# Altium integrated library Linear Technology PMIC-Switching Reg LTC1174-LTC3901.IntLib: 2647 symbols (part 266 of 310)
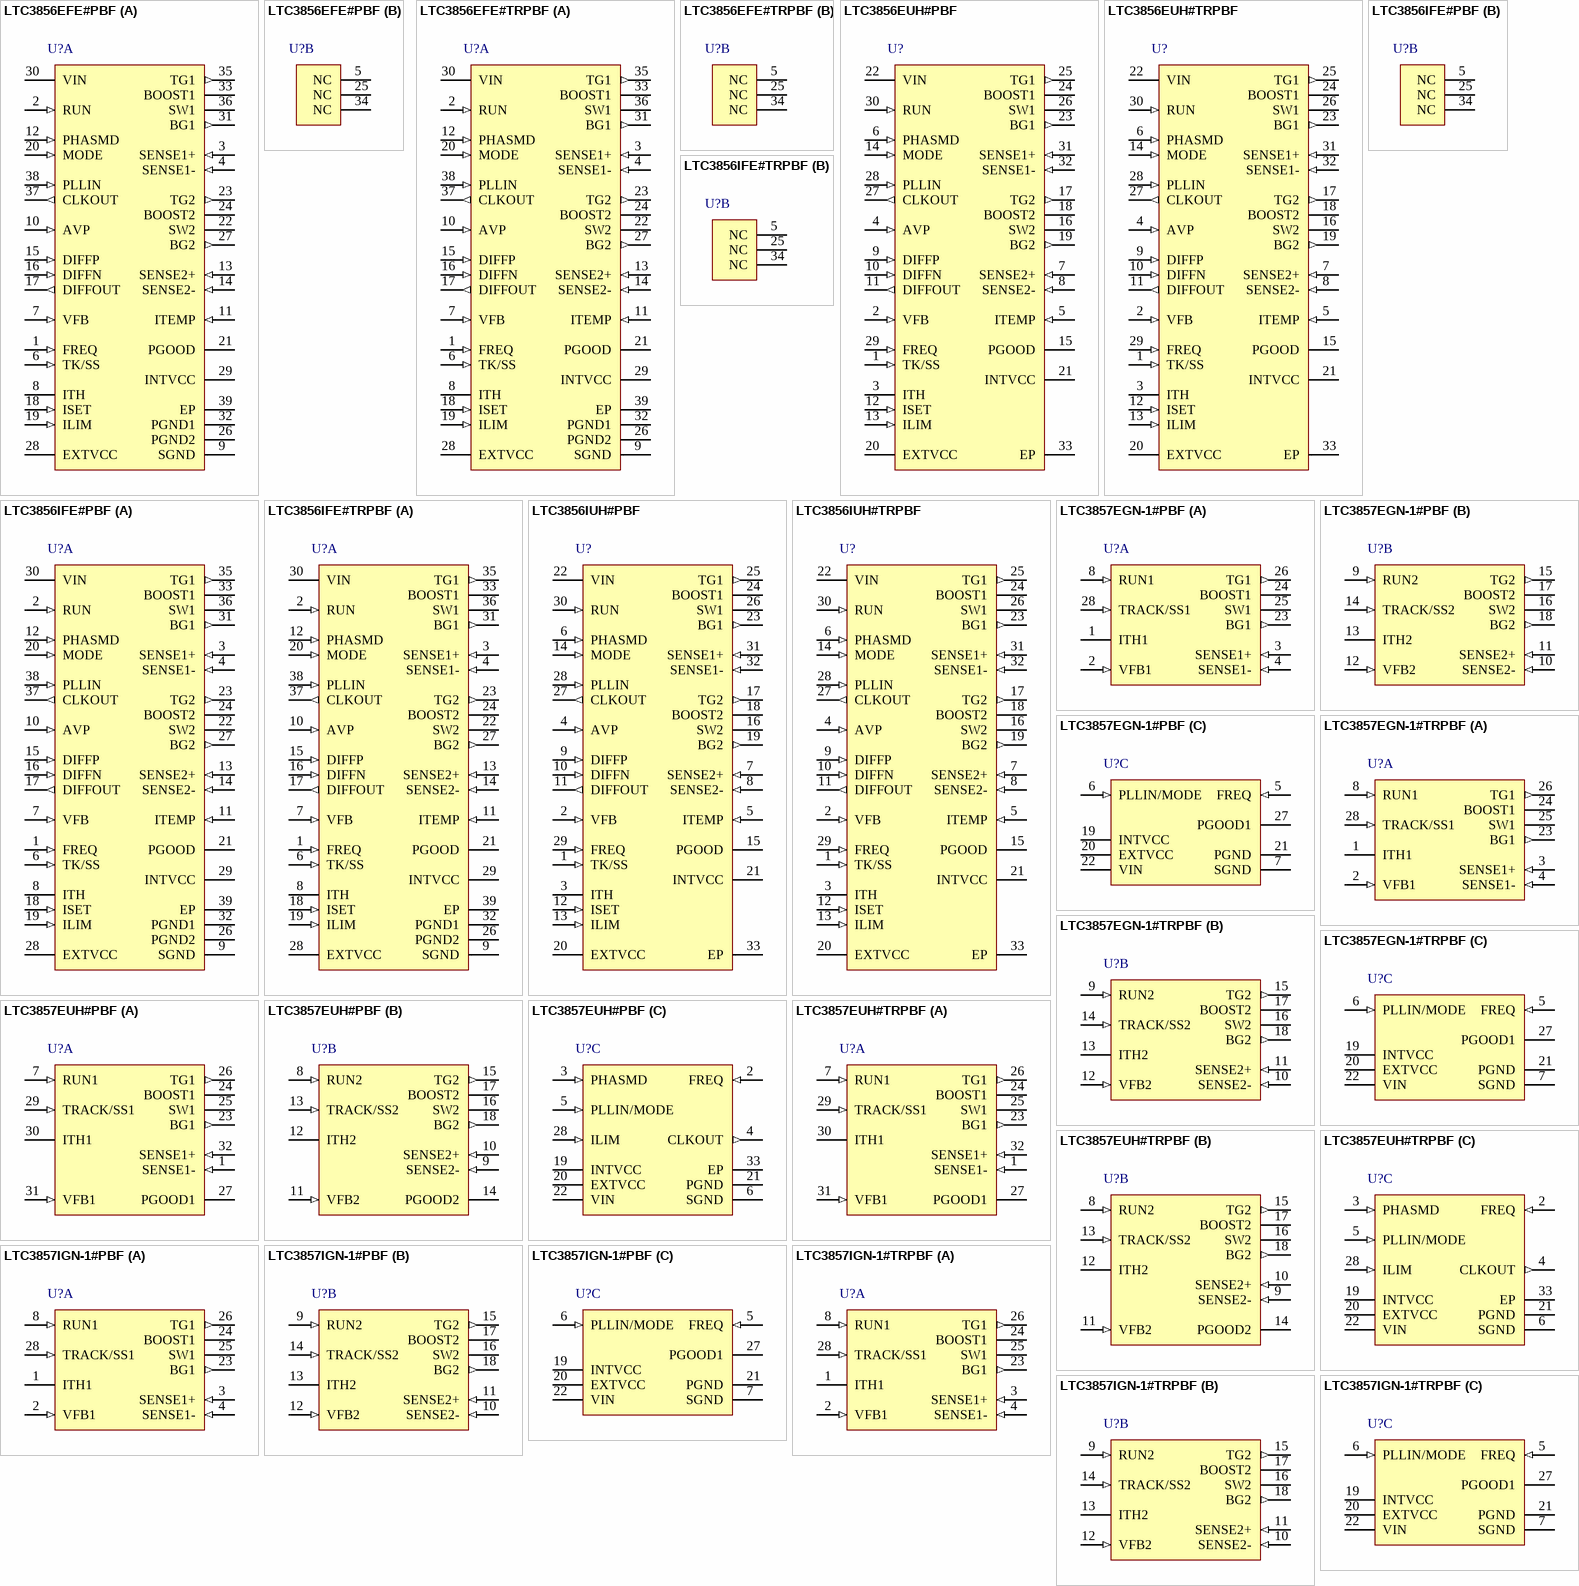
[diagram p275: symbols LTC3856EFE#PBF to LTC3857IGN-1#TRPBF]

## LTC3857EGN-1#TRPBF
designator U?
Low IQ, Dual, 2-Phase Synchronous Step-Down Step-Down Controller, 28-pin SOP (GN-28), -40 to 125 degC, Pb-Free, Tape and Reel; Manufacturer: Linear Technology; PartNumber: LTC3857EGN-1#TRPBF; Number of Outputs: 2; Over Voltage Protection(V): 40; PackageReference: GN-28; PackageDescription: 28-Pin Plastic SSOP, Body 9.9 x 3.9 mm, Pitch 0.635 mm; Supplier 1: Digi-Key; Supplier Part Number 1: LTC3857EGN-1#TRPBF-ND; RoHS: TRUE
footprint LT-GN-28_N (SOP, 28-Leads, Body 9.98x3.98mm, Pitch 0.635mm, IPC Medium Density)
footprint LT-GN-28_L (SOP, 28-Leads, Body 9.98x3.98mm, Pitch 0.635mm, IPC High Density)
footprint LT-GN-28_M (SOP, 28-Leads, Body 9.98x3.98mm, Pitch 0.635mm, IPC Low Density)
part A pins: 1 ITH1 "Error Amplifier Outputs and Switching Regulator Compensation Points. Each associated channel’s current comparator trip point increases with this control voltage.", 2 VFB1 (in) "Receives the remotely sensed feedback voltage for each controller from an external resistive divider across the output.", 3 SENSE1+ (in) "The (+) input to the differential current comparators are normally connected to DCR sensing networks or current sensing resistors. The ITH pin voltage and controlled offsets between the SENSE- and SENSE+ pins in conjunction (See Datasheet)", 4 SENSE1- (in) "The (-) Input to the Differential Current Comparators. When greater than INTVCC -0.5V, the SENSE- pin supplies current to the current comparator.", 8 RUN1 (in), 23 BG1 (out) "High Current Gate Drives for Bottom (Synchronous) N-Channel MOSFETs. Voltage swing at these pins is from ground to INTVCC", 24 BOOST1 "Bootstrapped Supplies to the Topside Floating Drivers. Capacitors are connected between the BOOST and SW pins and Schottky diodes are tied between the BOOST and INTVCC pins. Voltage swing at the BOOST pins is from INTVCC to (See Datasheet)", 25 SW1 "Switch Node Connections to Inductors", 26 TG1 (out) "High Current Gate Drives for Top N-Channel MOSFETs. These are the outputs of floating drivers with a voltage swing equal to INTVCC -0.5V superimposed on the switch node voltage SW.", 28 TRACK/SS1 (in)
part B pins: 9 RUN2 (in), 10 SENSE2- (in) "The (-) Input to the Differential Current Comparators. When greater than INTVCC -0.5V, the SENSE- pin supplies current to the current comparator.", 11 SENSE2+ (in) "The (+) input to the differential current comparators are normally connected to DCR sensing networks or current sensing resistors. The ITH pin voltage and controlled offsets between the SENSE- and SENSE+ pins in conjunction (See Datasheet)", 12 VFB2 (in) "Receives the remotely sensed feedback voltage for each controller from an external resistive divider across the output.", 13 ITH2 "Error Amplifier Outputs and Switching Regulator Compensation Points. Each associated channel’s current comparator trip point increases with this control voltage.", 14 TRACK/SS2 (in), 15 TG2 (out) "High Current Gate Drives for Top N-Channel MOSFETs. These are the outputs of floating drivers with a voltage swing equal to INTVCC -0.5V superimposed on the switch node voltage SW.", 16 SW2 "Switch Node Connections to Inductors", 17 BOOST2 "Bootstrapped Supplies to the Topside Floating Drivers. Capacitors are connected between the BOOST and SW pins and Schottky diodes are tied between the BOOST and INTVCC pins. Voltage swing at the BOOST pins is from INTVCC to (See Datasheet)", 18 BG2 (out) "High Current Gate Drives for Bottom (Synchronous) N-Channel MOSFETs. Voltage swing at these pins is from ground to INTVCC"
part C pins: 5 FREQ (in), 6 PLLIN/MODE (in), 7 SGND (power) "Small-signal ground common to both controllers, must be routed separately from high current grounds to the common (-) terminals of the CIN capacitors.", 19 INTVCC (power) "Output of the Internal Linear Low Dropout Regulator. The driver and control circuits are powered from this voltage source. Must be decoupled to power ground with a minimum of 4.7uF ceramic or other low ESR capacitor. Do not (See Datasheet)", 20 EXTVCC (power), 21 PGND (power) "Driver Power Ground. Connects to the sources of bottom (synchronous) N-channel MOSFETs and the (-) terminal(s) of CIN.", 22 VIN (power) "Main Supply Pin. A bypass capacitor should be tied between this pin and the signal ground pin.", 27 PGOOD1 (oc) "Open-Drain Logic Output. PGOOD1 is pulled to ground when the voltage on the VFB1 pin is not within +/-10% of its set point"

## LTC3857EUH#PBF
designator U?
Low IQ, Dual, 2-Phase Synchronous Step-Down Step-Down Controller, 32-pin QFN (UH-32), -40 to 125 degC, Pb-Free; Manufacturer: Linear Technology; PartNumber: LTC3857EUH#PBF; Number of Outputs: 2; Over Voltage Protection(V): 40; PackageReference: UH-32; PackageDescription: 32-Pin Plastic QFN, Body 5 x 5 mm, Pitch 0.5 mm; Supplier 1: Digi-Key; Supplier Part Number 1: LTC3857EUH#PBF-ND; RoHS: TRUE; Code_JEDEC: MO-220
footprint LT-UH-32_N (QFN, 32-Leads, Body 5.1x5.1mm, Pitch 0.5mm, Thermal Pad 3.45X3.45mm, IPC Medium Density)
footprint LT-UH-32_L (QFN, 32-Leads, Body 5.1x5.1mm, Pitch 0.5mm, Thermal Pad 3.45X3.45mm, IPC High Density)
footprint LT-UH-32_M (QFN, 32-Leads, Body 5.1x5.1mm, Pitch 0.5mm, Thermal Pad 3.45X3.45mm, IPC Low Density)
part A pins: 1 SENSE1- (in) "The (-) Input to the Differential Current Comparators. When greater than INTVCC - 0.5V, the SENSE- pin supplies current to the current comparator.", 7 RUN1 (in) "Digital Run Control Inputs for Each Controller. Forcing either of these pins below 1.26V shuts down that controller. Forcing both of these pins below 0.7V shuts down the entire LTC3857, reducing quiescent current to (See Datasheet)", 23 BG1 (out) "High Current Gate Drives for Bottom (Synchronous) N-Channel MOSFETs. Voltage swing at these pins is from ground to INTVCC.", 24 BOOST1 "Bootstrapped Supplies to the Topside Floating Drivers. Capacitors are connected  between the BOOST and SW pins and Schottky diodes are tied between the BOOST and INTVCC pins. Voltage swing at the BOOST pins is from INTVCC to (See Datasheet)", 25 SW1 "Switch Node Connections to Inductors.", 26 TG1 (out) "High Current Gate Drives for Top N-Channel MOSFETs. These are the outputs of floating drivers with a voltage swing equal to INTVCC - 0.5V superimposed on the switch node voltage SW.", 27 PGOOD1 (oc) "Open-Drain Logic Output. PGOOD1,2 is pulled to ground when the voltage on the VFB1,2 pin is not within +/-10% of its set point.", 29 TRACK/SS1 (in) "External Tracking and Soft-Start Input. The LTC3857 regulates the VFB1,2 voltage to the smaller of 0.8V or the voltage on the TRACK/SS1,2 pin. An internal 1uA pull-up current source is connected to this pin. A capacitor to (See Datasheet)", 30 ITH1 "Error Amplifier Outputs and Switching Regulator Compensation Points. Each associated channel’s current comparator trip point increases with this control voltage.", 31 VFB1 (in) "Receives the remotely sensed feedback voltage for each controller from an external resistive divider across the output.", 32 SENSE1+ (in) "The (+) input to the differential current comparators are normally connected to DCR sensing networks or current sensing resistors. The ITH pin voltage and controlled offsets between the SENSE-  and SENSE+  pins in (See Datasheet)"
part B pins: 8 RUN2 (in) "Digital Run Control Inputs for Each Controller. Forcing either of these pins below 1.26V shuts down that controller. Forcing both of these pins below 0.7V shuts down the entire LTC3857, reducing quiescent current to (See Datasheet)", 9 SENSE2- (in) "The (-) Input to the Differential Current Comparators. When greater than INTVCC - 0.5V, the SENSE- pin supplies current to the current comparator.", 10 SENSE2+ (in) "The (+) input to the differential current comparators are normally connected to DCR sensing networks or current sensing resistors. The ITH pin voltage and controlled offsets between the SENSE-  and SENSE+  pins in (See Datasheet)", 11 VFB2 (in) "Receives the remotely sensed feedback voltage for each controller from an external resistive divider across the output.", 12 ITH2 "Error Amplifier Outputs and Switching Regulator Compensation Points. Each associated channel’s current comparator trip point increases with this control voltage.", 13 TRACK/SS2 (in) "External Tracking and Soft-Start Input. The LTC3857 regulates the VFB1,2 voltage to the smaller of 0.8V or the voltage on the TRACK/SS1,2 pin. An internal 1uA pull-up current source is connected to this pin. A capacitor to (See Datasheet)", 14 PGOOD2 (oc) "Open-Drain Logic Output. PGOOD1,2 is pulled to ground when the voltage on the VFB1,2 pin is not within +/-10% of its set point.", 15 TG2 (out) "High Current Gate Drives for Top N-Channel MOSFETs. These are the outputs of floating drivers with a voltage swing equal to INTVCC - 0.5V superimposed on the switch node voltage SW.", 16 SW2 "Switch Node Connections to Inductors.", 17 BOOST2 "Bootstrapped Supplies to the Topside Floating Drivers. Capacitors are connected  between the BOOST and SW pins and Schottky diodes are tied between the BOOST and INTVCC pins. Voltage swing at the BOOST pins is from INTVCC to (See Datasheet)", 18 BG2 (out) "High Current Gate Drives for Bottom (Synchronous) N-Channel MOSFETs. Voltage swing at these pins is from ground to INTVCC."
part C pins: 2 FREQ (in) "The frequency control pin for the internal VCO. Connecting the pin to GND forces the VCO to a fixed low frequency of 350kHz. Connecting the pin to INTVCC forces the VCO to a fixed high frequency of 535kHz. Other frequencies (See Datasheet)", 3 PHASMD (in) "Control Input to Phase Selector which determines the phase relationships between controller 1, controller 2 and the CLKOUT signal. Pulling this pin to ground forces TG2 and CLKOUT to be out of phase 180degrees and 60degrees (See Datasheet)", 4 CLKOUT (out) "Output clock signal available to daisychain other controller ICs for additional MOSFET driver stages/phases. The output levels swing from INTVCC to  ground.", 5 PLLIN/MODE (in) "External Synchronization Input to Phase Detector and Forced Continuous Mode Input. When an external clock is applied to this pin, the phase-locked  loop will force the rising TG1 signal to be synchronized with the rising (See Datasheet)", 6 SGND (power) "Small-signal ground common to both controllers, must be routed separately from high current grounds to the common (-) terminals of the CIN capacitors. The exposed pad must be soldered to the PCB for rated thermal performance.", 19 INTVCC (power) "Output of the Internal Linear Low Dropout Regulator. The driver and control circuits are powered from this voltage source. Must be decoupled to power ground with a minimum of 4.7uF ceramic or other low ESR capacitor. Do not (See Datasheet)", 20 EXTVCC (power) "External Power Input to an Internal LDO Connected to INTVCC. This LDO supplies INTVCC power, bypassing the internal LDO powered from VIN whenever EXTVCC is higher than 4.7V. See EXTVCC Connection in the Applications (See Datasheet)", 21 PGND (power) "Driver Power Ground. Connects to the sources of bottom (synchronous) N-channel MOSFETs and the (-) terminal(s) of CIN.", 22 VIN (power) "Main Supply Pin. A bypass capacitor should be tied between this pin and the signal ground pin.", 28 ILIM (in) "Current Comparator Sense Voltage Range Inputs. Tying this pin to SGND, FLOAT or INTVCC sets the maximum current sense threshold to one of three different  levels for both comparators.", 33 EP (power) "Small-signal ground common to both controllers, must be routed separately from high current grounds to the common (-) terminals of the CIN capacitors. The exposed pad must be soldered to the PCB for rated thermal performance."

## LTC3857EUH#TRPBF
designator U?
Low IQ, Dual, 2-Phase Synchronous Step-Down Step-Down Controller, 32-pin QFN (UH-32), -40 to 125 degC, Pb-Free, Tape and Reel; Manufacturer: Linear Technology; PartNumber: LTC3857EUH#TRPBF; Number of Outputs: 2; Over Voltage Protection(V): 40; PackageReference: UH-32; PackageDescription: 32-Pin Plastic QFN, Body 5 x 5 mm, Pitch 0.5 mm; Supplier 1: Digi-Key; Supplier Part Number 1: LTC3857EUH#TRPBF-ND; RoHS: TRUE; Code_JEDEC: MO-220
footprint LT-UH-32_N (QFN, 32-Leads, Body 5.1x5.1mm, Pitch 0.5mm, Thermal Pad 3.45X3.45mm, IPC Medium Density)
footprint LT-UH-32_L (QFN, 32-Leads, Body 5.1x5.1mm, Pitch 0.5mm, Thermal Pad 3.45X3.45mm, IPC High Density)
footprint LT-UH-32_M (QFN, 32-Leads, Body 5.1x5.1mm, Pitch 0.5mm, Thermal Pad 3.45X3.45mm, IPC Low Density)
part A pins: 1 SENSE1- (in) "The (-) Input to the Differential Current Comparators. When greater than INTVCC - 0.5V, the SENSE- pin supplies current to the current comparator.", 7 RUN1 (in) "Digital Run Control Inputs for Each Controller. Forcing either of these pins below 1.26V shuts down that controller. Forcing both of these pins below 0.7V shuts down the entire LTC3857, reducing quiescent current to (See Datasheet)", 23 BG1 (out) "High Current Gate Drives for Bottom (Synchronous) N-Channel MOSFETs. Voltage swing at these pins is from ground to INTVCC.", 24 BOOST1 "Bootstrapped Supplies to the Topside Floating Drivers. Capacitors are connected  between the BOOST and SW pins and Schottky diodes are tied between the BOOST and INTVCC pins. Voltage swing at the BOOST pins is from INTVCC to (See Datasheet)", 25 SW1 "Switch Node Connections to Inductors.", 26 TG1 (out) "High Current Gate Drives for Top N-Channel MOSFETs. These are the outputs of floating drivers with a voltage swing equal to INTVCC - 0.5V superimposed on the switch node voltage SW.", 27 PGOOD1 (oc) "Open-Drain Logic Output. PGOOD1,2 is pulled to ground when the voltage on the VFB1,2 pin is not within +/-10% of its set point.", 29 TRACK/SS1 (in) "External Tracking and Soft-Start Input. The LTC3857 regulates the VFB1,2 voltage to the smaller of 0.8V or the voltage on the TRACK/SS1,2 pin. An internal 1uA pull-up current source is connected to this pin. A capacitor to (See Datasheet)", 30 ITH1 "Error Amplifier Outputs and Switching Regulator Compensation Points. Each associated channel’s current comparator trip point increases with this control voltage.", 31 VFB1 (in) "Receives the remotely sensed feedback voltage for each controller from an external resistive divider across the output.", 32 SENSE1+ (in) "The (+) input to the differential current comparators are normally connected to DCR sensing networks or current sensing resistors. The ITH pin voltage and controlled offsets between the SENSE-  and SENSE+  pins in (See Datasheet)"
part B pins: 8 RUN2 (in) "Digital Run Control Inputs for Each Controller. Forcing either of these pins below 1.26V shuts down that controller. Forcing both of these pins below 0.7V shuts down the entire LTC3857, reducing quiescent current to (See Datasheet)", 9 SENSE2- (in) "The (-) Input to the Differential Current Comparators. When greater than INTVCC - 0.5V, the SENSE- pin supplies current to the current comparator.", 10 SENSE2+ (in) "The (+) input to the differential current comparators are normally connected to DCR sensing networks or current sensing resistors. The ITH pin voltage and controlled offsets between the SENSE-  and SENSE+  pins in (See Datasheet)", 11 VFB2 (in) "Receives the remotely sensed feedback voltage for each controller from an external resistive divider across the output.", 12 ITH2 "Error Amplifier Outputs and Switching Regulator Compensation Points. Each associated channel’s current comparator trip point increases with this control voltage.", 13 TRACK/SS2 (in) "External Tracking and Soft-Start Input. The LTC3857 regulates the VFB1,2 voltage to the smaller of 0.8V or the voltage on the TRACK/SS1,2 pin. An internal 1uA pull-up current source is connected to this pin. A capacitor to (See Datasheet)", 14 PGOOD2 (oc) "Open-Drain Logic Output. PGOOD1,2 is pulled to ground when the voltage on the VFB1,2 pin is not within +/-10% of its set point.", 15 TG2 (out) "High Current Gate Drives for Top N-Channel MOSFETs. These are the outputs of floating drivers with a voltage swing equal to INTVCC - 0.5V superimposed on the switch node voltage SW.", 16 SW2 "Switch Node Connections to Inductors.", 17 BOOST2 "Bootstrapped Supplies to the Topside Floating Drivers. Capacitors are connected  between the BOOST and SW pins and Schottky diodes are tied between the BOOST and INTVCC pins. Voltage swing at the BOOST pins is from INTVCC to (See Datasheet)", 18 BG2 (out) "High Current Gate Drives for Bottom (Synchronous) N-Channel MOSFETs. Voltage swing at these pins is from ground to INTVCC."
part C pins: 2 FREQ (in) "The frequency control pin for the internal VCO. Connecting the pin to GND forces the VCO to a fixed low frequency of 350kHz. Connecting the pin to INTVCC forces the VCO to a fixed high frequency of 535kHz. Other frequencies (See Datasheet)", 3 PHASMD (in) "Control Input to Phase Selector which determines the phase relationships between controller 1, controller 2 and the CLKOUT signal. Pulling this pin to ground forces TG2 and CLKOUT to be out of phase 180degrees and 60degrees (See Datasheet)", 4 CLKOUT (out) "Output clock signal available to daisychain other controller ICs for additional MOSFET driver stages/phases. The output levels swing from INTVCC to  ground.", 5 PLLIN/MODE (in) "External Synchronization Input to Phase Detector and Forced Continuous Mode Input. When an external clock is applied to this pin, the phase-locked  loop will force the rising TG1 signal to be synchronized with the rising (See Datasheet)", 6 SGND (power) "Small-signal ground common to both controllers, must be routed separately from high current grounds to the common (-) terminals of the CIN capacitors. The exposed pad must be soldered to the PCB for rated thermal performance.", 19 INTVCC (power) "Output of the Internal Linear Low Dropout Regulator. The driver and control circuits are powered from this voltage source. Must be decoupled to power ground with a minimum of 4.7uF ceramic or other low ESR capacitor. Do not (See Datasheet)", 20 EXTVCC (power) "External Power Input to an Internal LDO Connected to INTVCC. This LDO supplies INTVCC power, bypassing the internal LDO powered from VIN whenever EXTVCC is higher than 4.7V. See EXTVCC Connection in the Applications (See Datasheet)", 21 PGND (power) "Driver Power Ground. Connects to the sources of bottom (synchronous) N-channel MOSFETs and the (-) terminal(s) of CIN.", 22 VIN (power) "Main Supply Pin. A bypass capacitor should be tied between this pin and the signal ground pin.", 28 ILIM (in) "Current Comparator Sense Voltage Range Inputs. Tying this pin to SGND, FLOAT or INTVCC sets the maximum current sense threshold to one of three different  levels for both comparators.", 33 EP (power) "Small-signal ground common to both controllers, must be routed separately from high current grounds to the common (-) terminals of the CIN capacitors. The exposed pad must be soldered to the PCB for rated thermal performance."

## LTC3857IGN-1#PBF
designator U?
Low IQ, Dual, 2-Phase Synchronous Step-Down Step-Down Controller, 28-pin SOP (GN-28), -40 to 125 degC, Pb-Free; Manufacturer: Linear Technology; PartNumber: LTC3857IGN-1#PBF; Number of Outputs: 2; Over Voltage Protection(V): 40; PackageReference: GN-28; PackageDescription: 28-Pin Plastic SSOP, Body 9.9 x 3.9 mm, Pitch 0.635 mm; Supplier 1: Digi-Key; Supplier Part Number 1: LTC3857IGN-1#PBF-ND; RoHS: TRUE
footprint LT-GN-28_N (SOP, 28-Leads, Body 9.98x3.98mm, Pitch 0.635mm, IPC Medium Density)
footprint LT-GN-28_L (SOP, 28-Leads, Body 9.98x3.98mm, Pitch 0.635mm, IPC High Density)
footprint LT-GN-28_M (SOP, 28-Leads, Body 9.98x3.98mm, Pitch 0.635mm, IPC Low Density)
part A pins: 1 ITH1 "Error Amplifier Outputs and Switching Regulator Compensation Points. Each associated channel’s current comparator trip point increases with this control voltage.", 2 VFB1 (in) "Receives the remotely sensed feedback voltage for each controller from an external resistive divider across the output.", 3 SENSE1+ (in) "The (+) input to the differential current comparators are normally connected to DCR sensing networks or current sensing resistors. The ITH pin voltage and controlled offsets between the SENSE- and SENSE+ pins in conjunction (See Datasheet)", 4 SENSE1- (in) "The (-) Input to the Differential Current Comparators. When greater than INTVCC -0.5V, the SENSE- pin supplies current to the current comparator.", 8 RUN1 (in), 23 BG1 (out) "High Current Gate Drives for Bottom (Synchronous) N-Channel MOSFETs. Voltage swing at these pins is from ground to INTVCC", 24 BOOST1 "Bootstrapped Supplies to the Topside Floating Drivers. Capacitors are connected between the BOOST and SW pins and Schottky diodes are tied between the BOOST and INTVCC pins. Voltage swing at the BOOST pins is from INTVCC to (See Datasheet)", 25 SW1 "Switch Node Connections to Inductors", 26 TG1 (out) "High Current Gate Drives for Top N-Channel MOSFETs. These are the outputs of floating drivers with a voltage swing equal to INTVCC -0.5V superimposed on the switch node voltage SW.", 28 TRACK/SS1 (in)
part B pins: 9 RUN2 (in), 10 SENSE2- (in) "The (-) Input to the Differential Current Comparators. When greater than INTVCC -0.5V, the SENSE- pin supplies current to the current comparator.", 11 SENSE2+ (in) "The (+) input to the differential current comparators are normally connected to DCR sensing networks or current sensing resistors. The ITH pin voltage and controlled offsets between the SENSE- and SENSE+ pins in conjunction (See Datasheet)", 12 VFB2 (in) "Receives the remotely sensed feedback voltage for each controller from an external resistive divider across the output.", 13 ITH2 "Error Amplifier Outputs and Switching Regulator Compensation Points. Each associated channel’s current comparator trip point increases with this control voltage.", 14 TRACK/SS2 (in), 15 TG2 (out) "High Current Gate Drives for Top N-Channel MOSFETs. These are the outputs of floating drivers with a voltage swing equal to INTVCC -0.5V superimposed on the switch node voltage SW.", 16 SW2 "Switch Node Connections to Inductors", 17 BOOST2 "Bootstrapped Supplies to the Topside Floating Drivers. Capacitors are connected between the BOOST and SW pins and Schottky diodes are tied between the BOOST and INTVCC pins. Voltage swing at the BOOST pins is from INTVCC to (See Datasheet)", 18 BG2 (out) "High Current Gate Drives for Bottom (Synchronous) N-Channel MOSFETs. Voltage swing at these pins is from ground to INTVCC"
part C pins: 5 FREQ (in), 6 PLLIN/MODE (in), 7 SGND (power) "Small-signal ground common to both controllers, must be routed separately from high current grounds to the common (-) terminals of the CIN capacitors.", 19 INTVCC (power) "Output of the Internal Linear Low Dropout Regulator. The driver and control circuits are powered from this voltage source. Must be decoupled to power ground with a minimum of 4.7uF ceramic or other low ESR capacitor. Do not (See Datasheet)", 20 EXTVCC (power), 21 PGND (power) "Driver Power Ground. Connects to the sources of bottom (synchronous) N-channel MOSFETs and the (-) terminal(s) of CIN.", 22 VIN (power) "Main Supply Pin. A bypass capacitor should be tied between this pin and the signal ground pin.", 27 PGOOD1 (oc) "Open-Drain Logic Output. PGOOD1 is pulled to ground when the voltage on the VFB1 pin is not within +/-10% of its set point"

## LTC3857IGN-1#TRPBF
designator U?
Low IQ, Dual, 2-Phase Synchronous Step-Down Step-Down Controller, 28-pin SOP (GN-28), -40 to 125 degC, Pb-Free, Tape and Reel; Manufacturer: Linear Technology; PartNumber: LTC3857IGN-1#TRPBF; Number of Outputs: 2; Over Voltage Protection(V): 40; PackageReference: GN-28; PackageDescription: 28-Pin Plastic SSOP, Body 9.9 x 3.9 mm, Pitch 0.635 mm; Supplier 1: Digi-Key; Supplier Part Number 1: LTC3857IGN-1#TRPBF-ND; RoHS: TRUE
footprint LT-GN-28_N (SOP, 28-Leads, Body 9.98x3.98mm, Pitch 0.635mm, IPC Medium Density)
footprint LT-GN-28_L (SOP, 28-Leads, Body 9.98x3.98mm, Pitch 0.635mm, IPC High Density)
footprint LT-GN-28_M (SOP, 28-Leads, Body 9.98x3.98mm, Pitch 0.635mm, IPC Low Density)
part A pins: 1 ITH1 "Error Amplifier Outputs and Switching Regulator Compensation Points. Each associated channel’s current comparator trip point increases with this control voltage.", 2 VFB1 (in) "Receives the remotely sensed feedback voltage for each controller from an external resistive divider across the output.", 3 SENSE1+ (in) "The (+) input to the differential current comparators are normally connected to DCR sensing networks or current sensing resistors. The ITH pin voltage and controlled offsets between the SENSE- and SENSE+ pins in conjunction (See Datasheet)", 4 SENSE1- (in) "The (-) Input to the Differential Current Comparators. When greater than INTVCC -0.5V, the SENSE- pin supplies current to the current comparator.", 8 RUN1 (in), 23 BG1 (out) "High Current Gate Drives for Bottom (Synchronous) N-Channel MOSFETs. Voltage swing at these pins is from ground to INTVCC", 24 BOOST1 "Bootstrapped Supplies to the Topside Floating Drivers. Capacitors are connected between the BOOST and SW pins and Schottky diodes are tied between the BOOST and INTVCC pins. Voltage swing at the BOOST pins is from INTVCC to (See Datasheet)", 25 SW1 "Switch Node Connections to Inductors", 26 TG1 (out) "High Current Gate Drives for Top N-Channel MOSFETs. These are the outputs of floating drivers with a voltage swing equal to INTVCC -0.5V superimposed on the switch node voltage SW.", 28 TRACK/SS1 (in)
part B pins: 9 RUN2 (in), 10 SENSE2- (in) "The (-) Input to the Differential Current Comparators. When greater than INTVCC -0.5V, the SENSE- pin supplies current to the current comparator.", 11 SENSE2+ (in) "The (+) input to the differential current comparators are normally connected to DCR sensing networks or current sensing resistors. The ITH pin voltage and controlled offsets between the SENSE- and SENSE+ pins in conjunction (See Datasheet)", 12 VFB2 (in) "Receives the remotely sensed feedback voltage for each controller from an external resistive divider across the output.", 13 ITH2 "Error Amplifier Outputs and Switching Regulator Compensation Points. Each associated channel’s current comparator trip point increases with this control voltage.", 14 TRACK/SS2 (in), 15 TG2 (out) "High Current Gate Drives for Top N-Channel MOSFETs. These are the outputs of floating drivers with a voltage swing equal to INTVCC -0.5V superimposed on the switch node voltage SW.", 16 SW2 "Switch Node Connections to Inductors", 17 BOOST2 "Bootstrapped Supplies to the Topside Floating Drivers. Capacitors are connected between the BOOST and SW pins and Schottky diodes are tied between the BOOST and INTVCC pins. Voltage swing at the BOOST pins is from INTVCC to (See Datasheet)", 18 BG2 (out) "High Current Gate Drives for Bottom (Synchronous) N-Channel MOSFETs. Voltage swing at these pins is from ground to INTVCC"
part C pins: 5 FREQ (in), 6 PLLIN/MODE (in), 7 SGND (power) "Small-signal ground common to both controllers, must be routed separately from high current grounds to the common (-) terminals of the CIN capacitors.", 19 INTVCC (power) "Output of the Internal Linear Low Dropout Regulator. The driver and control circuits are powered from this voltage source. Must be decoupled to power ground with a minimum of 4.7uF ceramic or other low ESR capacitor. Do not (See Datasheet)", 20 EXTVCC (power), 21 PGND (power) "Driver Power Ground. Connects to the sources of bottom (synchronous) N-channel MOSFETs and the (-) terminal(s) of CIN.", 22 VIN (power) "Main Supply Pin. A bypass capacitor should be tied between this pin and the signal ground pin.", 27 PGOOD1 (oc) "Open-Drain Logic Output. PGOOD1 is pulled to ground when the voltage on the VFB1 pin is not within +/-10% of its set point"

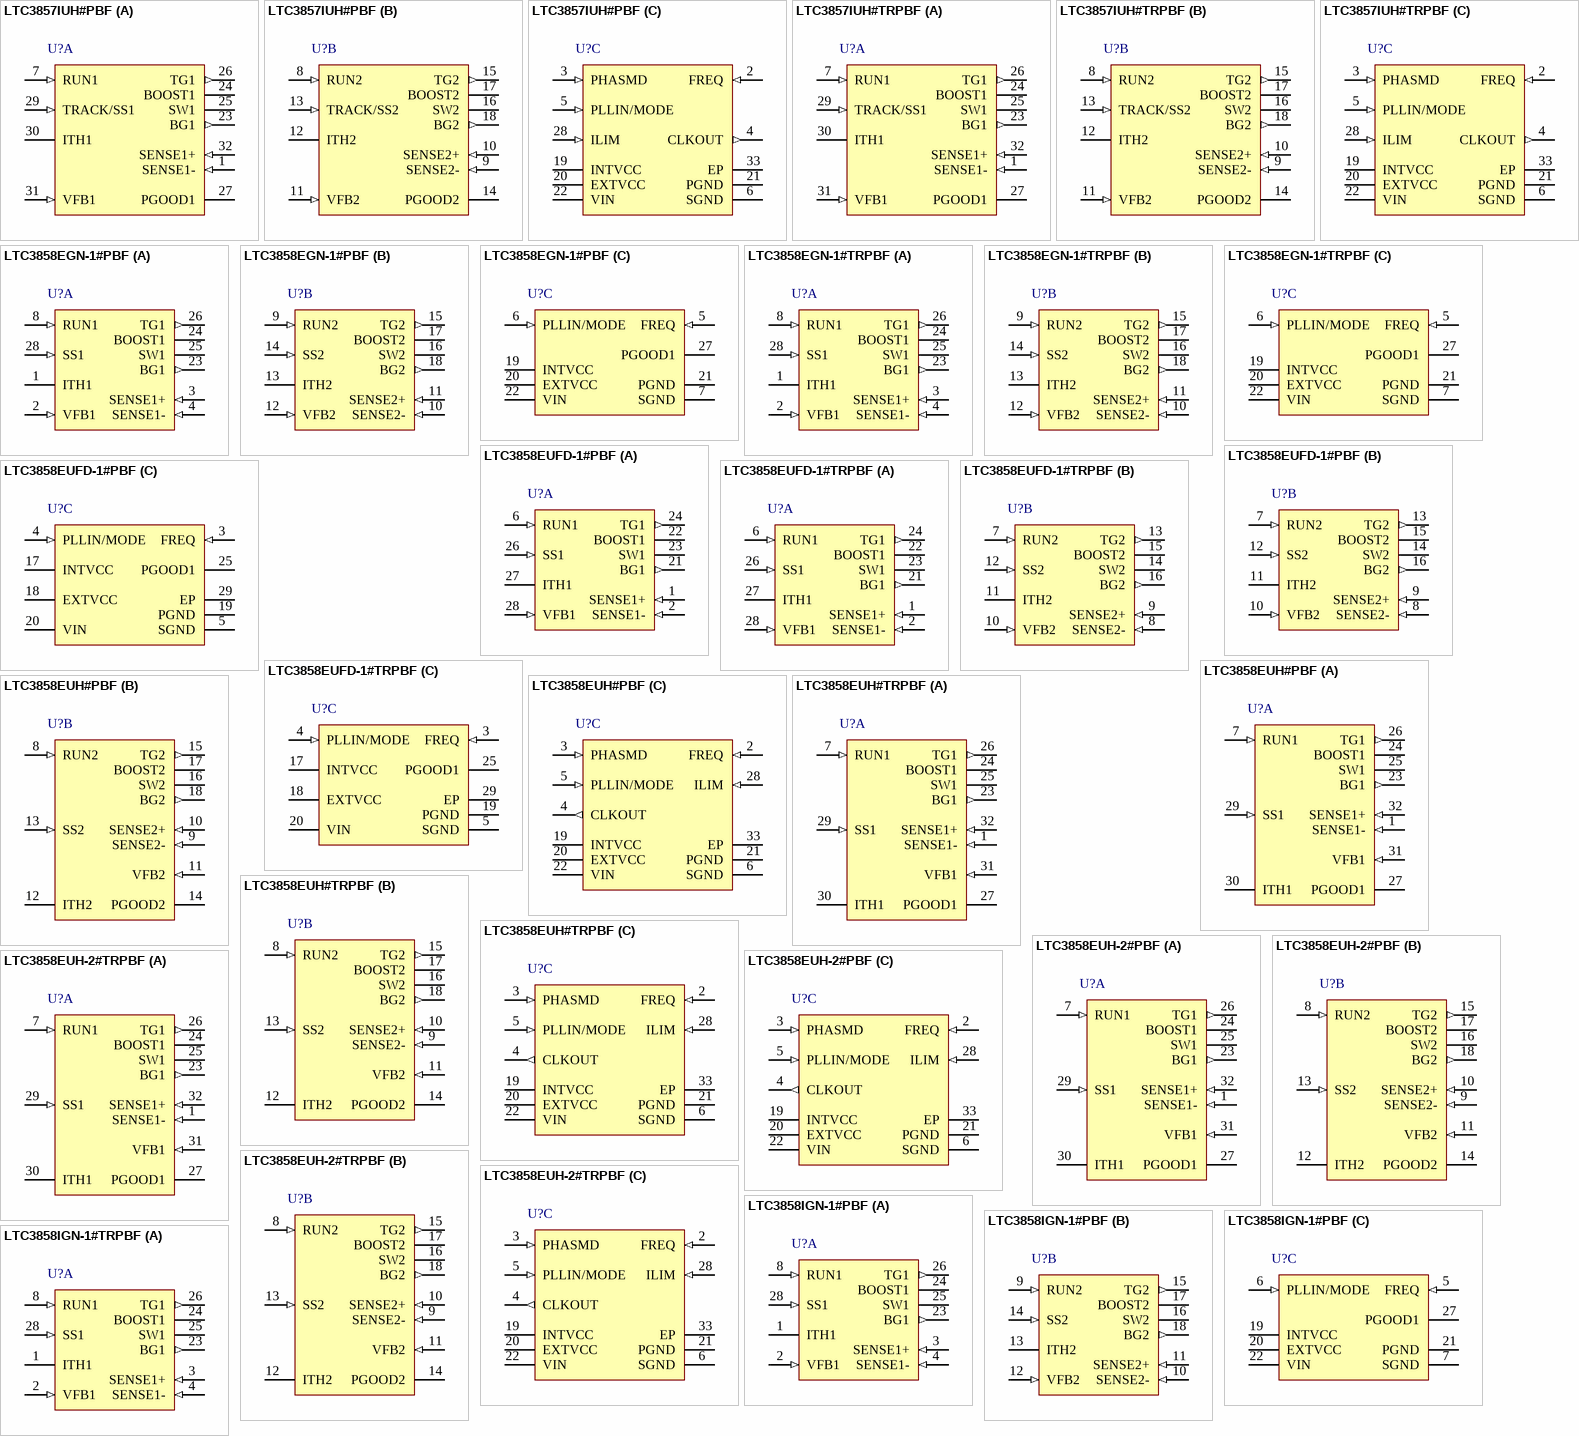
[diagram p96: symbols LTC3857IUH#PBF to LTC3858IGN-1#TRPBF]

## LTC3857IUH#PBF
designator U?
Low IQ, Dual, 2-Phase Synchronous Step-Down Step-Down Controller, 32-pin QFN (UH-32), -40 to 125 degC, Pb-Free; Manufacturer: Linear Technology; PartNumber: LTC3857IUH#PBF; Number of Outputs: 2; Over Voltage Protection(V): 40; PackageReference: UH-32; PackageDescription: 32-Pin Plastic QFN, Body 5 x 5 mm, Pitch 0.5 mm; Supplier 1: Digi-Key; Supplier Part Number 1: LTC3857IUH#PBF-ND; RoHS: TRUE; Code_JEDEC: MO-220
footprint LT-UH-32_N (QFN, 32-Leads, Body 5.1x5.1mm, Pitch 0.5mm, Thermal Pad 3.45X3.45mm, IPC Medium Density)
footprint LT-UH-32_L (QFN, 32-Leads, Body 5.1x5.1mm, Pitch 0.5mm, Thermal Pad 3.45X3.45mm, IPC High Density)
footprint LT-UH-32_M (QFN, 32-Leads, Body 5.1x5.1mm, Pitch 0.5mm, Thermal Pad 3.45X3.45mm, IPC Low Density)
part A pins: 1 SENSE1- (in) "The (-) Input to the Differential Current Comparators. When greater than INTVCC - 0.5V, the SENSE- pin supplies current to the current comparator.", 7 RUN1 (in) "Digital Run Control Inputs for Each Controller. Forcing either of these pins below 1.26V shuts down that controller. Forcing both of these pins below 0.7V shuts down the entire LTC3857, reducing quiescent current to (See Datasheet)", 23 BG1 (out) "High Current Gate Drives for Bottom (Synchronous) N-Channel MOSFETs. Voltage swing at these pins is from ground to INTVCC.", 24 BOOST1 "Bootstrapped Supplies to the Topside Floating Drivers. Capacitors are connected  between the BOOST and SW pins and Schottky diodes are tied between the BOOST and INTVCC pins. Voltage swing at the BOOST pins is from INTVCC to (See Datasheet)", 25 SW1 "Switch Node Connections to Inductors.", 26 TG1 (out) "High Current Gate Drives for Top N-Channel MOSFETs. These are the outputs of floating drivers with a voltage swing equal to INTVCC - 0.5V superimposed on the switch node voltage SW.", 27 PGOOD1 (oc) "Open-Drain Logic Output. PGOOD1,2 is pulled to ground when the voltage on the VFB1,2 pin is not within +/-10% of its set point.", 29 TRACK/SS1 (in) "External Tracking and Soft-Start Input. The LTC3857 regulates the VFB1,2 voltage to the smaller of 0.8V or the voltage on the TRACK/SS1,2 pin. An internal 1uA pull-up current source is connected to this pin. A capacitor to (See Datasheet)", 30 ITH1 "Error Amplifier Outputs and Switching Regulator Compensation Points. Each associated channel’s current comparator trip point increases with this control voltage.", 31 VFB1 (in) "Receives the remotely sensed feedback voltage for each controller from an external resistive divider across the output.", 32 SENSE1+ (in) "The (+) input to the differential current comparators are normally connected to DCR sensing networks or current sensing resistors. The ITH pin voltage and controlled offsets between the SENSE-  and SENSE+  pins in (See Datasheet)"
part B pins: 8 RUN2 (in) "Digital Run Control Inputs for Each Controller. Forcing either of these pins below 1.26V shuts down that controller. Forcing both of these pins below 0.7V shuts down the entire LTC3857, reducing quiescent current to (See Datasheet)", 9 SENSE2- (in) "The (-) Input to the Differential Current Comparators. When greater than INTVCC - 0.5V, the SENSE- pin supplies current to the current comparator.", 10 SENSE2+ (in) "The (+) input to the differential current comparators are normally connected to DCR sensing networks or current sensing resistors. The ITH pin voltage and controlled offsets between the SENSE-  and SENSE+  pins in (See Datasheet)", 11 VFB2 (in) "Receives the remotely sensed feedback voltage for each controller from an external resistive divider across the output.", 12 ITH2 "Error Amplifier Outputs and Switching Regulator Compensation Points. Each associated channel’s current comparator trip point increases with this control voltage.", 13 TRACK/SS2 (in) "External Tracking and Soft-Start Input. The LTC3857 regulates the VFB1,2 voltage to the smaller of 0.8V or the voltage on the TRACK/SS1,2 pin. An internal 1uA pull-up current source is connected to this pin. A capacitor to (See Datasheet)", 14 PGOOD2 (oc) "Open-Drain Logic Output. PGOOD1,2 is pulled to ground when the voltage on the VFB1,2 pin is not within +/-10% of its set point.", 15 TG2 (out) "High Current Gate Drives for Top N-Channel MOSFETs. These are the outputs of floating drivers with a voltage swing equal to INTVCC - 0.5V superimposed on the switch node voltage SW.", 16 SW2 "Switch Node Connections to Inductors.", 17 BOOST2 "Bootstrapped Supplies to the Topside Floating Drivers. Capacitors are connected  between the BOOST and SW pins and Schottky diodes are tied between the BOOST and INTVCC pins. Voltage swing at the BOOST pins is from INTVCC to (See Datasheet)", 18 BG2 (out) "High Current Gate Drives for Bottom (Synchronous) N-Channel MOSFETs. Voltage swing at these pins is from ground to INTVCC."
part C pins: 2 FREQ (in) "The frequency control pin for the internal VCO. Connecting the pin to GND forces the VCO to a fixed low frequency of 350kHz. Connecting the pin to INTVCC forces the VCO to a fixed high frequency of 535kHz. Other frequencies (See Datasheet)", 3 PHASMD (in) "Control Input to Phase Selector which determines the phase relationships between controller 1, controller 2 and the CLKOUT signal. Pulling this pin to ground forces TG2 and CLKOUT to be out of phase 180degrees and 60degrees (See Datasheet)", 4 CLKOUT (out) "Output clock signal available to daisychain other controller ICs for additional MOSFET driver stages/phases. The output levels swing from INTVCC to  ground.", 5 PLLIN/MODE (in) "External Synchronization Input to Phase Detector and Forced Continuous Mode Input. When an external clock is applied to this pin, the phase-locked  loop will force the rising TG1 signal to be synchronized with the rising (See Datasheet)", 6 SGND (power) "Small-signal ground common to both controllers, must be routed separately from high current grounds to the common (-) terminals of the CIN capacitors. The exposed pad must be soldered to the PCB for rated thermal performance.", 19 INTVCC (power) "Output of the Internal Linear Low Dropout Regulator. The driver and control circuits are powered from this voltage source. Must be decoupled to power ground with a minimum of 4.7uF ceramic or other low ESR capacitor. Do not (See Datasheet)", 20 EXTVCC (power) "External Power Input to an Internal LDO Connected to INTVCC. This LDO supplies INTVCC power, bypassing the internal LDO powered from VIN whenever EXTVCC is higher than 4.7V. See EXTVCC Connection in the Applications (See Datasheet)", 21 PGND (power) "Driver Power Ground. Connects to the sources of bottom (synchronous) N-channel MOSFETs and the (-) terminal(s) of CIN.", 22 VIN (power) "Main Supply Pin. A bypass capacitor should be tied between this pin and the signal ground pin.", 28 ILIM (in) "Current Comparator Sense Voltage Range Inputs. Tying this pin to SGND, FLOAT or INTVCC sets the maximum current sense threshold to one of three different  levels for both comparators.", 33 EP (power) "Small-signal ground common to both controllers, must be routed separately from high current grounds to the common (-) terminals of the CIN capacitors. The exposed pad must be soldered to the PCB for rated thermal performance."

## LTC3857IUH#TRPBF
designator U?
Low IQ, Dual, 2-Phase Synchronous Step-Down Step-Down Controller, 32-pin QFN (UH-32), -40 to 125 degC, Pb-Free, Tape and Reel; Manufacturer: Linear Technology; PartNumber: LTC3857IUH#TRPBF; Number of Outputs: 2; Over Voltage Protection(V): 40; PackageReference: UH-32; PackageDescription: 32-Pin Plastic QFN, Body 5 x 5 mm, Pitch 0.5 mm; Supplier 1: Digi-Key; Supplier Part Number 1: LTC3857IUH#TRPBF-ND; RoHS: TRUE; Code_JEDEC: MO-220
footprint LT-UH-32_N (QFN, 32-Leads, Body 5.1x5.1mm, Pitch 0.5mm, Thermal Pad 3.45X3.45mm, IPC Medium Density)
footprint LT-UH-32_L (QFN, 32-Leads, Body 5.1x5.1mm, Pitch 0.5mm, Thermal Pad 3.45X3.45mm, IPC High Density)
footprint LT-UH-32_M (QFN, 32-Leads, Body 5.1x5.1mm, Pitch 0.5mm, Thermal Pad 3.45X3.45mm, IPC Low Density)
part A pins: 1 SENSE1- (in) "The (-) Input to the Differential Current Comparators. When greater than INTVCC - 0.5V, the SENSE- pin supplies current to the current comparator.", 7 RUN1 (in) "Digital Run Control Inputs for Each Controller. Forcing either of these pins below 1.26V shuts down that controller. Forcing both of these pins below 0.7V shuts down the entire LTC3857, reducing quiescent current to (See Datasheet)", 23 BG1 (out) "High Current Gate Drives for Bottom (Synchronous) N-Channel MOSFETs. Voltage swing at these pins is from ground to INTVCC.", 24 BOOST1 "Bootstrapped Supplies to the Topside Floating Drivers. Capacitors are connected  between the BOOST and SW pins and Schottky diodes are tied between the BOOST and INTVCC pins. Voltage swing at the BOOST pins is from INTVCC to (See Datasheet)", 25 SW1 "Switch Node Connections to Inductors.", 26 TG1 (out) "High Current Gate Drives for Top N-Channel MOSFETs. These are the outputs of floating drivers with a voltage swing equal to INTVCC - 0.5V superimposed on the switch node voltage SW.", 27 PGOOD1 (oc) "Open-Drain Logic Output. PGOOD1,2 is pulled to ground when the voltage on the VFB1,2 pin is not within +/-10% of its set point.", 29 TRACK/SS1 (in) "External Tracking and Soft-Start Input. The LTC3857 regulates the VFB1,2 voltage to the smaller of 0.8V or the voltage on the TRACK/SS1,2 pin. An internal 1uA pull-up current source is connected to this pin. A capacitor to (See Datasheet)", 30 ITH1 "Error Amplifier Outputs and Switching Regulator Compensation Points. Each associated channel’s current comparator trip point increases with this control voltage.", 31 VFB1 (in) "Receives the remotely sensed feedback voltage for each controller from an external resistive divider across the output.", 32 SENSE1+ (in) "The (+) input to the differential current comparators are normally connected to DCR sensing networks or current sensing resistors. The ITH pin voltage and controlled offsets between the SENSE-  and SENSE+  pins in (See Datasheet)"
part B pins: 8 RUN2 (in) "Digital Run Control Inputs for Each Controller. Forcing either of these pins below 1.26V shuts down that controller. Forcing both of these pins below 0.7V shuts down the entire LTC3857, reducing quiescent current to (See Datasheet)", 9 SENSE2- (in) "The (-) Input to the Differential Current Comparators. When greater than INTVCC - 0.5V, the SENSE- pin supplies current to the current comparator.", 10 SENSE2+ (in) "The (+) input to the differential current comparators are normally connected to DCR sensing networks or current sensing resistors. The ITH pin voltage and controlled offsets between the SENSE-  and SENSE+  pins in (See Datasheet)", 11 VFB2 (in) "Receives the remotely sensed feedback voltage for each controller from an external resistive divider across the output.", 12 ITH2 "Error Amplifier Outputs and Switching Regulator Compensation Points. Each associated channel’s current comparator trip point increases with this control voltage.", 13 TRACK/SS2 (in) "External Tracking and Soft-Start Input. The LTC3857 regulates the VFB1,2 voltage to the smaller of 0.8V or the voltage on the TRACK/SS1,2 pin. An internal 1uA pull-up current source is connected to this pin. A capacitor to (See Datasheet)", 14 PGOOD2 (oc) "Open-Drain Logic Output. PGOOD1,2 is pulled to ground when the voltage on the VFB1,2 pin is not within +/-10% of its set point.", 15 TG2 (out) "High Current Gate Drives for Top N-Channel MOSFETs. These are the outputs of floating drivers with a voltage swing equal to INTVCC - 0.5V superimposed on the switch node voltage SW.", 16 SW2 "Switch Node Connections to Inductors.", 17 BOOST2 "Bootstrapped Supplies to the Topside Floating Drivers. Capacitors are connected  between the BOOST and SW pins and Schottky diodes are tied between the BOOST and INTVCC pins. Voltage swing at the BOOST pins is from INTVCC to (See Datasheet)", 18 BG2 (out) "High Current Gate Drives for Bottom (Synchronous) N-Channel MOSFETs. Voltage swing at these pins is from ground to INTVCC."
part C pins: 2 FREQ (in) "The frequency control pin for the internal VCO. Connecting the pin to GND forces the VCO to a fixed low frequency of 350kHz. Connecting the pin to INTVCC forces the VCO to a fixed high frequency of 535kHz. Other frequencies (See Datasheet)", 3 PHASMD (in) "Control Input to Phase Selector which determines the phase relationships between controller 1, controller 2 and the CLKOUT signal. Pulling this pin to ground forces TG2 and CLKOUT to be out of phase 180degrees and 60degrees (See Datasheet)", 4 CLKOUT (out) "Output clock signal available to daisychain other controller ICs for additional MOSFET driver stages/phases. The output levels swing from INTVCC to  ground.", 5 PLLIN/MODE (in) "External Synchronization Input to Phase Detector and Forced Continuous Mode Input. When an external clock is applied to this pin, the phase-locked  loop will force the rising TG1 signal to be synchronized with the rising (See Datasheet)", 6 SGND (power) "Small-signal ground common to both controllers, must be routed separately from high current grounds to the common (-) terminals of the CIN capacitors. The exposed pad must be soldered to the PCB for rated thermal performance.", 19 INTVCC (power) "Output of the Internal Linear Low Dropout Regulator. The driver and control circuits are powered from this voltage source. Must be decoupled to power ground with a minimum of 4.7uF ceramic or other low ESR capacitor. Do not (See Datasheet)", 20 EXTVCC (power) "External Power Input to an Internal LDO Connected to INTVCC. This LDO supplies INTVCC power, bypassing the internal LDO powered from VIN whenever EXTVCC is higher than 4.7V. See EXTVCC Connection in the Applications (See Datasheet)", 21 PGND (power) "Driver Power Ground. Connects to the sources of bottom (synchronous) N-channel MOSFETs and the (-) terminal(s) of CIN.", 22 VIN (power) "Main Supply Pin. A bypass capacitor should be tied between this pin and the signal ground pin.", 28 ILIM (in) "Current Comparator Sense Voltage Range Inputs. Tying this pin to SGND, FLOAT or INTVCC sets the maximum current sense threshold to one of three different  levels for both comparators.", 33 EP (power) "Small-signal ground common to both controllers, must be routed separately from high current grounds to the common (-) terminals of the CIN capacitors. The exposed pad must be soldered to the PCB for rated thermal performance."

## LTC3858EGN-1#PBF
designator U?
Low IQ, Dual 2-Phase Synchronous Step-Down Controller, 28-pin SOP (GN-28), -40 to 125 degC, Pb-Free; Manufacturer: Linear Technology; PartNumber: LTC3858EGN-1#PBF; Number of Outputs: 2; PackageReference: GN-28; PackageDescription: 28-Pin Plastic SSOP, Body 9.9 x 3.9 mm, Pitch 0.635 mm; Supplier 1: Digi-Key; Supplier Part Number 1: LTC3858EGN-1#PBF-ND; RoHS: TRUE
footprint LT-GN-28_N (SOP, 28-Leads, Body 9.98x3.98mm, Pitch 0.635mm, IPC Medium Density)
footprint LT-GN-28_L (SOP, 28-Leads, Body 9.98x3.98mm, Pitch 0.635mm, IPC High Density)
footprint LT-GN-28_M (SOP, 28-Leads, Body 9.98x3.98mm, Pitch 0.635mm, IPC Low Density)
part A pins: 1 ITH1 "Error Ampli?er Outputs and Switching Regulator Compensation Points. Each associated channel’s current comparator trip point increases with this control voltage.", 2 VFB1 (in) "Receives the remotely sensed feedback voltage for each controller from an external resistive divider across the output.", 3 SENSE1+ (in) "the (+) input to the differential current comparators that are normally connected to inductor DCR sensing networks or current sensing resistors. The ITH pin voltage and controlled offsets between the SENSE- and SENSE+ pins (See Datasheet)", 4 SENSE1- (in) "The (-) Input to the Differential Current Comparators. When greater than INTVCC - 0.5V, the SENSE- pin supplies current to the current comparator.", 8 RUN1 (in) "Digital Run Control Inputs for Each Controller. Forcing either of these pins below 1.2V shuts down that controller. Forcing both of these pins below 0.7V shuts down the entire LTC3858-1, reducing quiescent current to (See Datasheet)", 23 BG1 (out) "High Current Gate Drives for Bottom (Synchronous) N-Channel MOSFETs. Voltage swing at these pins is from ground to INTVCC.", 24 BOOST1 "Bootstrapped Supplies to the Topside Floating Drivers. Capacitors are connected between the BOOST and SW pins and Schottky diodes are tied between the BOOST and INTVCCpins. Voltage swing at the BOOST pins is from INTVCC to (See Datasheet)", 25 SW1 "Switch Node Connections to Inductors.", 26 TG1 (out) "High Current Gate Drives for Top N-Channel MOSFETs. These are the outputs of ?oating drivers with a voltage swing equal to INTVCC - 0.5V superimposed on the switch node voltage SW.", 28 SS1 (in) "External SoftStart Input. The LTC3858-1 regulates the VFB1,2 voltage to the smaller of 0.8V or the voltage on the SS1,2 pin. An internal 1uA pull-up current source is connected to this pin. A capacitor to ground at this pin (See Datasheet)"
part B pins: 9 RUN2 (in) "Digital Run Control Inputs for Each Controller. Forcing either of these pins below 1.2V shuts down that controller. Forcing both of these pins below 0.7V shuts down the entire LTC3858-1, reducing quiescent current to (See Datasheet)", 10 SENSE2- (in) "The (-) Input to the Differential Current Comparators. When greater than INTVCC - 0.5V, the SENSE- pin supplies current to the current comparator.", 11 SENSE2+ (in) "the (+) input to the differential current comparators that are normally connected to inductor DCR sensing networks or current sensing resistors. The ITH pin voltage and controlled offsets between the SENSE- and SENSE+ pins (See Datasheet)", 12 VFB2 (in) "Receives the remotely sensed feedback voltage for each controller from an external resistive divider across the output.", 13 ITH2 "Error Ampli?er Outputs and Switching Regulator Compensation Points. Each associated channel’s current comparator trip point increases with this control voltage.", 14 SS2 (in) "External SoftStart Input. The LTC3858-1 regulates the VFB1,2 voltage to the smaller of 0.8V or the voltage on the SS1,2 pin. An internal 1uA pull-up current source is connected to this pin. A capacitor to ground at this pin (See Datasheet)", 15 TG2 (out) "High Current Gate Drives for Top N-Channel MOSFETs. These are the outputs of ?oating drivers with a voltage swing equal to INTVCC - 0.5V superimposed on the switch node voltage SW.", 16 SW2 "Switch Node Connections to Inductors.", 17 BOOST2 "Bootstrapped Supplies to the Topside Floating Drivers. Capacitors are connected between the BOOST and SW pins and Schottky diodes are tied between the BOOST and INTVCCpins. Voltage swing at the BOOST pins is from INTVCC to (See Datasheet)", 18 BG2 (out) "High Current Gate Drives for Bottom (Synchronous) N-Channel MOSFETs. Voltage swing at these pins is from ground to INTVCC."
part C pins: 5 FREQ (in) "The Frequency Control Pin for the Internal Voltage-Contolled Oscillator (VCO). Connecting this pin to GND forces the VCO to a ?xed low frequency of 350kHz. Connecting this pin to INTVCC forces the VCO to a ?xed h(See Datasheet)", 6 PLLIN/MODE (in) "External Synchronization Input to Phase Detector and Forced Continuous Mode Input. When an external clock is applied to this pin, the phase-locked loop will force the rising TG1 signal to be synchronized with the rising edge (See Datasheet)", 7 SGND (power) "Small-signal ground common to both controllers, must be routed separately from high current grounds to the common (-) terminals of the CIN capacitors. The exposed pad (QFN only) must be soldered to the PCB for rated thermal (See Datasheet)", 19 INTVCC (power) "Output of the Internal Linear Low Dropout Regulator. The driver and control circuits are powered from this voltage source. Must be decoupled to power ground with a minimum of 4.7uF ceramic or other low ESR capacitor. Do not (See Datasheet)", 20 EXTVCC (power) "External Power Input to an Internal LDO Connected to INTVCC. This LDO supplies INTVCC power, bypassing the internal LDO powered from VIN whenever EXTVCC is higher than 4.7V. See EXTVCC Connection in the Applications (See Datasheet)", 21 PGND (power) "Driver Power Ground. Connects to the sources of bottom (synchronous) N-channel MOSFETs and the (-) terminal(s) of CIN.", 22 VIN (power) "Main Input Supply Pin. A bypass capacitor should be tied between this pin and the signal ground pin.", 27 PGOOD1 (oc) "Open-Drain Logic Output. PGOOD1 is pulled to ground when the voltage on the VFB1 pin is not within +/-10% of its set point."